# EAGLE library part SCREWTERM_9PIN (library logic-supply)
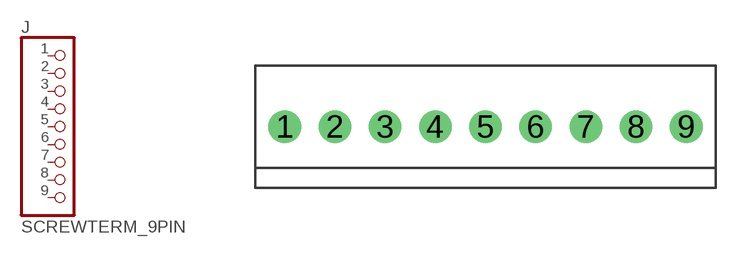
[diagram p6: symbol with the pads of SCREWTERM_1725724_9; footprint SCREWTERM_1725724_9]

Designator prefix J

## SCREWTERM_9PIN_2-54  [SCREWTERM_1725724_9]
1  1  pas
2  2  pas
3  3  pas
4  4  pas
5  5  pas
6  6  pas
7  7  pas
8  8  pas
9  9  pas

## Footprint SCREWTERM_1725724_9 (pad centres in mm)
Pheonix Contact 1725724 2.54mm screw terminal, 9 position.
drill 1.1: 1 0,0; 2 2.54,0; 3 5.08,0; 4 7.62,0; 5 10.16,0; 6 12.7,0; 7 15.24,0; 8 17.78,0; 9 20.32,0